# Altium schematic symbol library LV BMS SchLib.SchLib: 9 symbols
Pins are listed as number, name and electrical type; pins without a type are passive.

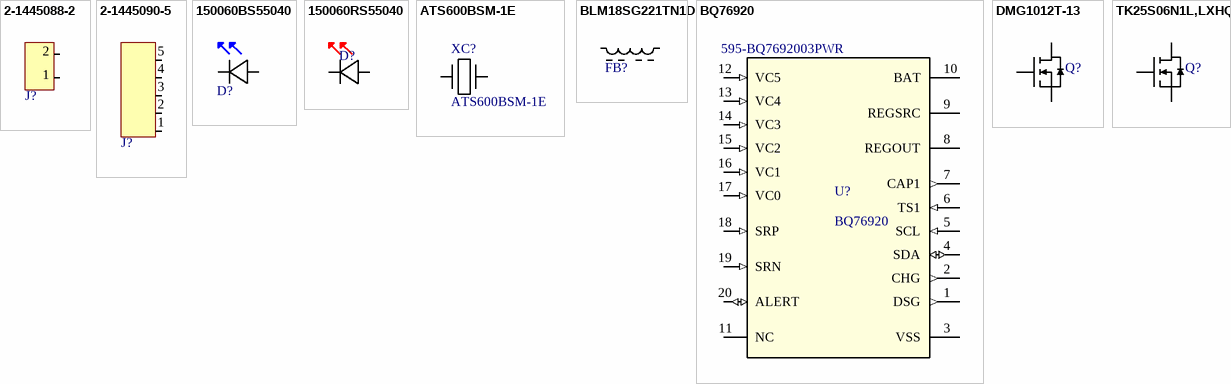
[diagram p0: symbols 2-1445088-2 to TK25S06N1L,LXHQ]

## 2-1445088-2
designator J?  (value not drawn)
Conn Power HDR 2 POS 3mm Solder RA Thru-Hole 2 Terminal 1 Port; Manufacturer: TE Connectivity; Number of Terminals/Pins: 2; Connector Type: Pin; Current Rating: 5A; Connector System: Wire-to-Board; Contact Retention: No (Without); VDE Tested: Yes; Voltage Rating: 250V; Mating Retention: Yes (With); Gender: Male; PCB Mount Retention: With; PCB Mounting Orientation: Right Angle; Number of Ports: 1; Pitch: 0.118inch; Plating Thickness: 2.54um; PCB Thickness: 0.062mm; Approvals: CSA; Supplier 1: Mouser; Manufacturer Part Number: 2-1445088-2; RoHS: Yes; Category: Power Connectors; Stock 1: 895; Pricing 1: 1=1.05000, 10=0.83200, 50=0.83200, 100=0.72300, 1000=0.57900, 10000=0.47000 (USD); Mount: Through Hole; Color: Black; Contact Material: Brass; Housing Material: Nylon; Housing Color: Black; Contact Plating: Gold,Tin; Contact Shape: Square; Contact Finish - Mating: GOLD; Insulation Material: Nylon; Insulation Color: Black; Min Operating Temperature: -40°C; Max Operating Temperature: 221°C; Termination: Solder; Orientation: Right Angle; Package Quantity: 350; Number of Rows: 1; Fastening Type: Ramp; Packaging: Tray; Number of Positions: 2; Number of Contacts: 2; Sealable: No (Without); PCB Mount Alignment: No (Without); Max Voltage Rating (AC): 250V; Contact Gender: Male; Series: Micro MATE-N-LOK; Contact Type: Male Pin; Circuit Application: Power; Mating Alignment: Yes (With); Number of Power Positions: 2; Contact Current Rating: 5A; Length: 7.43mm; Depth: 8.92mm; Radiation Hardening: No; Flammability Rating: UL94 V-0; ELV: Compliant; RoHS Compliant: Yes; REACH SVHC: Unknown; ComponentLink1URL: https://datasheet.ciiva.com/729/eng-cd-1445088-a1-729446.pdf?src-supplier=Digi-Key; ComponentLink1Description: https://datasheet.ciiva.com/729/eng-cd-1445088-a1-729446.pdf?src-supplier=Digi-Key; ComponentLink2URL: https://datasheet.ciiva.com/16653/eng-cs-82181-softshell-high-density-0508-16653464.pdf?src-supplier=Avnet+Europe; ComponentLink2Description: https://datasheet.ciiva.com/16653/eng-cs-82181-softshell-high-density-0508-16653464.pdf?src-supplier=Avnet+Europe; ComponentLink3URL: https://datasheet.ciiva.com/8007/1650928-8007529.pdf?src-supplier=Element14; ComponentLink3Description: https://datasheet.ciiva.com/8007/1650928-8007529.pdf?src-supplier=Element14; ComponentLink4URL: https://datasheet.ciiva.com/9442/eng-cs-82181-softshell-high-density-0508-9442543.pdf?src-supplier=Avnet; ComponentLink4Description: https://datasheet.ciiva.com/9442/eng-cs-82181-softshell-high-density-0508-9442543.pdf?src-supplier=Avnet; Supplier Part Number 1: 571-2-1445088-2
footprint 2-1445088-2 (2pos micro mate-n-lok)
pins: 1, 2

## 2-1445090-5
designator J?  (value not drawn)
Micro MATE-N-LOK, Rectangular Power Connectors, Header, Plug, Wire-to-Board, 5 Position, 3mm [.118in] Centerline, Printed Circuit Board, UL 94V-0; Manufacturer: TE Connectivity; Number of Positions: 5; Connector Type: Pin; Mating Retention: Yes (With); PCB Mount Alignment: No (Without); VDE Tested: Yes; PCB Mount Retention: With; PCB Mounting Orientation: Right Angle; Contact Current Rating: 5A; Pitch: 0.118inch; Plating Thickness: 2.54um; PCB Thickness: 0.062mm; Approvals: CSA; Supplier 1: Mouser; Manufacturer Part Number: 2-1445090-5; RoHS: Yes; Category: Connectors; Stock 1: 62; Pricing 1: 1=1.73000, 10=1.41000, 50=1.41000, 100=1.22000, 1000=0.95800, 10000=0.77900 (USD); Mount: Surface Mount; Color: Black; Contact Material: Brass; Housing Color: Black; Housing Material: Nylon; Contact Plating: Gold,Tin; Min Operating Temperature: -40°C; Max Operating Temperature: 221°C; Packaging: Tray; Package Quantity: 215; Number of Rows: 1; Fastening Type: Ramp; Termination: SMD/SMT; Number of Contacts: 5; Orientation: Right Angle; Series: Micro MATE-N-LOK; Contact Type: Male Pin; Connector System: Wire-to-Board; Contact Retention: No (Without); Sealable: No (Without); Circuit Application: Power; Mating Alignment: Yes (With); Number of Power Positions: 5; Strain Relief: No (Without); Length: 19mm; Width: 3.86mm; Height: 8.11mm; Insulation Diameter: 3mm; Radiation Hardening: No; Lead Free: Lead Free; ELV: Compliant; Flammability Rating: UL94 V-0; RoHS Compliant: Yes; ComponentLink1URL: https://datasheet.ciiva.com/9441/eng-cs-82181-softshell-high-density-0508-9441612.pdf?src-supplier=Avnet; ComponentLink1Description: https://datasheet.ciiva.com/9441/eng-cs-82181-softshell-high-density-0508-9441612.pdf?src-supplier=Avnet; ComponentLink2URL: https://datasheet.ciiva.com/729/eng-cd-1445090-b-729471.pdf?src-supplier=Digi-Key; ComponentLink2Description: https://datasheet.ciiva.com/729/eng-cd-1445090-b-729471.pdf?src-supplier=Digi-Key; Supplier Part Number 1: 571-2-1445090-5
footprint 2-1445090-5 (5pos Micro Mate-n-lok)
pins: 1, 2, 3, 4, 5

## 150060BS55040
designator D?  (value not drawn)
LED BLUE DIFFUSED 0603 SMD; Manufacturer: Wurth Electronics; Lens Style: Flat; Luminous Intensity: 80mcd; Forward Voltage: 3.2V; Test Current: 20mA; Viewing Angle: 140°; Dominant Wavelength: 470nm; Lens Size: 0.8mm; Supplier 1: Mouser; Manufacturer Part Number: 150060BS55040; RoHS: No; Pricing 1: 1=0.18000, 10=0.16200, 50=0.13200, 100=0.11700, 1000=0.08800, 10000=0.08800 (USD); Mount: Surface Mount; Case/Package: 0603; Color: Blue; Packaging: Tape and Reel; Lens Transparency: Diffused; Length: 1.6mm; Width: 0.8mm; Height: 0.5mm; RoHS Compliant: No; ComponentLink1URL: http://www.farnell.com/datasheets/2621640.pdf?src-supplier=Farnell; ComponentLink1Description: http://www.farnell.com/datasheets/2621640.pdf?src-supplier=Farnell; ComponentLink2URL: https://www.we-online.de/web/en/index.php/download/media/07_electronic_components/download_center_1/application_notes_berichte/ano002_leds___the_future_of_horticultural_lighting/ANO002b_EN_LEDs_The_Future_of_Horticultural_Lighting.pdf?src-supplier=Digi-Key; ComponentLink2Description: https://www.we-online.de/web/en/index.php/download/media/07_electronic_components/download_center_1/application_notes_berichte/ano002_leds___the_future_of_horticultural_lighting/ANO002b_EN_LEDs_The_Future_of_Horticultural_Lighting.pdf?src-supplier=Digi-Key; ComponentLink3URL: https://katalog.we-online.de/pbs/datasheet/150060BS55040.pdf?src-supplier=Digi-Key; ComponentLink3Description: https://katalog.we-online.de/pbs/datasheet/150060BS55040.pdf?src-supplier=Digi-Key; Supplier Part Number 1: 710-150060BS55040
footprint 150060xS55040 (Red LED)
pins: 1 Cathode, 2 Anode

## 150060RS55040
designator D?  (value not drawn)
SMT Mono-color Chip LED Diffused
footprint 150060xS55040 (Red LED)
pins: 1 Cathode, 2 Anode

## ATS600BSM-1E
designator XC?
CRYSTAL 60.0000MHZ 18PF SMD; Manufacturer: CTS; Frequency: 60MHz; Tolerance: 30ppm; ESR (Equivalent Series Resistance): 80R; Frequency Stability: 50ppm; Supplier 1: Mouser; Manufacturer Part Number: ATS600BSM-1E; RoHS: Yes; Category: Crystals; Stock 1: 862; Pricing 1: 1=0.44000, 10=0.34000, 50=0.34000, 100=0.30200, 1000=0.23000, 10000=0.20200 (USD); Mount: Surface Mount; Number of Pins: 2; Contact Plating: Copper,Tin,Silver; Min Operating Temperature: -40°C; Max Operating Temperature: 85°C; Packaging: Tape and Reel; Load Capacitance: 18pF; Package Quantity: 1000; Frequency Tolerance: 30ppm; Termination: SMD/SMT; Series: ATS-SM; Length: 0.437inch; Width: 3.8mm; Height: 0.169inch; RoHS Compliant: Yes; ComponentLink1URL: https://datasheet.ciiva.com/861/008-0309-0-861343.pdf?src-supplier=Digi-Key; ComponentLink1Description: https://datasheet.ciiva.com/861/008-0309-0-861343.pdf?src-supplier=Digi-Key; ComponentLink2URL: https://datasheet.ciiva.com/3176/008-0309-0-3176665.pdf?src-supplier=Avnet; ComponentLink2Description: https://datasheet.ciiva.com/3176/008-0309-0-3176665.pdf?src-supplier=Avnet; ComponentLink3URL: https://datasheet.ciiva.com/4949/008-0309-0-32667-4949738.pdf?src-supplier=Mouser; ComponentLink3Description: https://datasheet.ciiva.com/4949/008-0309-0-32667-4949738.pdf?src-supplier=Mouser; Supplier Part Number 1: 774-ATS600BSM-1E
footprint ATS600BSM-1E (Crystal)
pins: 1, 1

## BLM18SG221TN1D
designator FB?  (value not drawn)
FERRITE BEAD 220 OHM 0603 1LN; Manufacturer: Murata; Material: Ferrite,Steel; Impedance: 220R; Tolerance: 25%; DC Resistance (DCR): 40mR; Max DC Current: 2.5A; Number of Lines: 1; Test Frequency: 100MHz; Supplier 1: Mouser; Manufacturer Part Number: BLM18SG221TN1D; RoHS: Yes; Category: Inductors; Stock 1: 126991; Pricing 1: 1=0.13000, 10=0.07500, 50=0.07500, 100=0.05100, 1000=0.03800, 10000=0.03000 (USD); Case/Package: 0603; Number of Pins: 2; Core Material: Ferrite; Case Code (Metric): 1608; Case Code (Imperial): 0603; Weight: 7.1E-05oz; Min Operating Temperature: -55°C; Max Operating Temperature: 125°C; Package Quantity: 1; Max Current Rating: 2.5A; Packaging: Tape and Reel; Current Rating: 2.5A; Termination: SMD/SMT; DC Current: 2.5A; Number of Circuits: 1; Series: BLM18S; DC Resistance-Max: 40mR; Length: 1.6mm; Width: 0.8mm; Height: 0.8mm; Depth: 0.95mm; Radiation Hardening: No; REACH SVHC: No SVHC; Lead Free: Lead Free; RoHS Compliant: Yes; Supplier Part Number 1: 81-BLM18SG221TN1D
pins: 1, 2

## BQ76920
designator U?  Supplier Part Number 1: 595-BQ7692003PWR
3 to 5-Series Cell Li-Ion and Li-Phosphate Battery Monitor; Manufacturer: Texas Instruments; Manufacturer Part Number: BQ7692003PWR; Fault Protection: Over Current,Short Circuit,Over/Under Voltage; Interface: I2C; Operating Supply Voltage: 25V; Output Voltage: 3.6V; Supplier 1: Mouser; Case/Package: TSSOP; Category: Battery Management; Contact Plating: Gold; Lead Free: Lead Free; Max Operating Temperature: 85°C; Min Operating Temperature: -40°C; Mount: Surface Mount; Number of Pins: 20; Package Quantity: 2000; Packaging: Tape and Reel; RoHS Compliant: Yes; Weight: 0.002758oz
footprint TSSOP-20 (Battery Management Li-Ion, Li-Phosphate Battery Moniter)
pins: 1 DSG (out), 2 CHG (out), 3 VSS (power), 4 SDA (io), 5 SCL (in), 6 TS1 (in), 7 CAP1 (out), 8 REGOUT (power), 9 REGSRC (power), 10 BAT (power), 11 NC, 12 VC5 (in), 13 VC4 (in), 14 VC3 (in), 15 VC2 (in), 16 VC1 (in), 17 VC0 (in), 18 SRP (in), 19 SRN (in), 20 ALERT (io)

## DMG1012T-13
designator Q?  (value not drawn)
Trans Mosfet N-ch 20V 0.63A 3-PIN SOT-523 T/r; Manufacturer: Diodes; Continuous Drain Current (ID): 630mA; Rds On Max: 400mR; Input Capacitance: 60.67pF; Max Power Dissipation: 280mW; Supplier 1: Mouser; Manufacturer Part Number: DMG1012T-13; RoHS: Yes; Stock 1: 11363; Pricing 1: 1=0.41000, 10=0.19900, 50=0.19900, 100=0.09600, 1000=0.05700, 10000=0.03900 (USD); Mount: Surface Mount; Case/Package: SOT-523; Min Operating Temperature: -55°C; Max Operating Temperature: 150°C; Packaging: Tape and Reel; Drain to Source Voltage (Vdss): 20V; Supplier Part Number 1: 621-DMG1012T-13
footprint SOT-523-3 (MOSFET)
pins: 1 Gate, 2 Source, 3 Drain

## TK25S06N1L,LXHQ
designator Q?  (value not drawn)
MOSFET 57W 1MHz Automotive; AEC-Q101; Manufacturer Part Number: TK25S06N1L,LQ(O; Manufacturer: Toshiba; Category: MOSFETs; Supplier 1: Mouser; RoHS: No; Stock 1: 5332; Pricing 1: 1=0.89000, 10=0.75400, 50=0.75400, 100=0.56000, 1000=0.39100, 10000=0.33300 (USD); Supplier Part Number 1: 757-TK25S06N1L,LXHQ; Case/Package: DPAK+
footprint DPAK+ (Power MOSFET (N-ch single 30V<VDSS=60V))
pins: 1 Gate, 2 Drain, 3 Source